# Altium integrated library AUVic_Integrated_Library_Regulators.IntLib: 41 symbols (part 2 of 2)
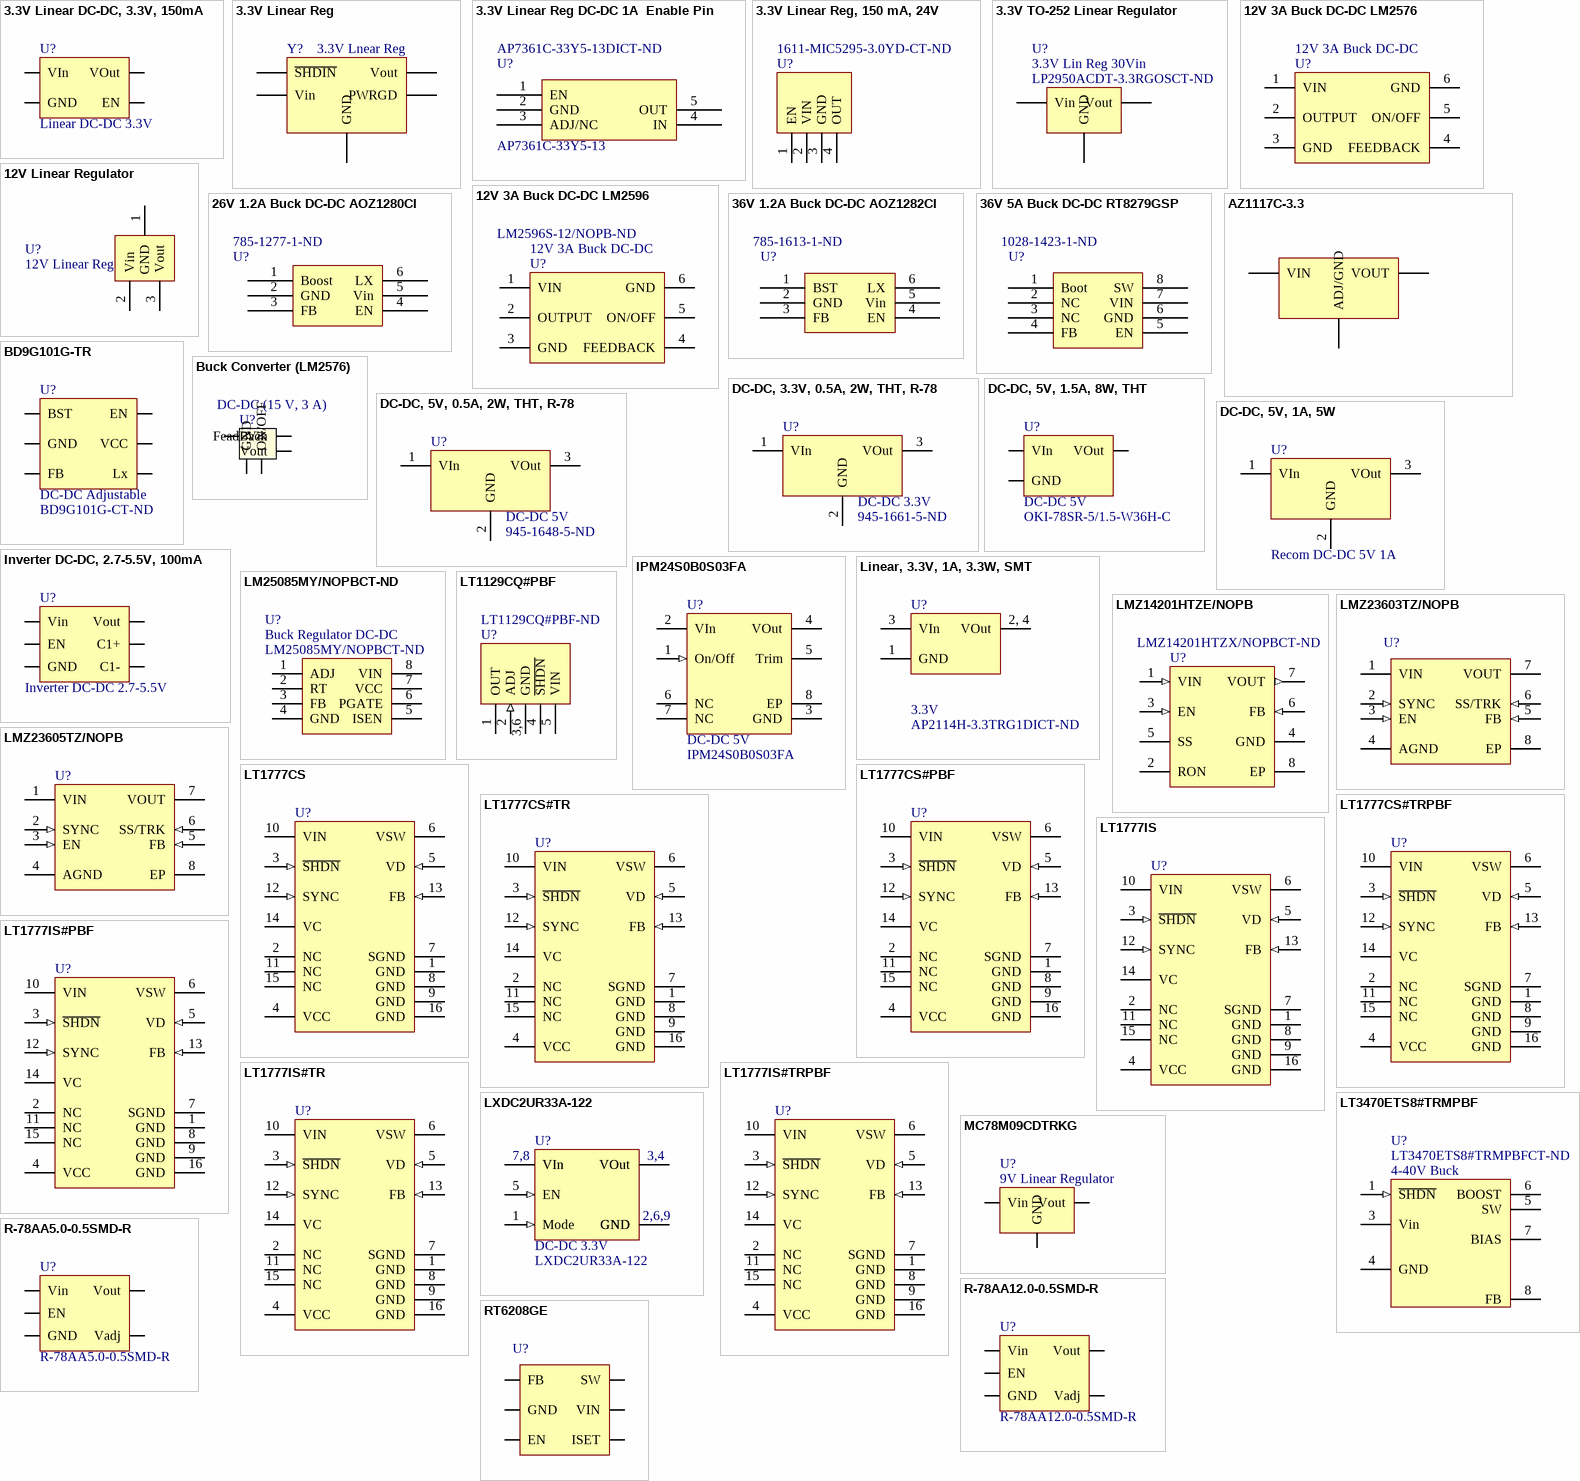
[diagram p2: symbols 3.3V Linear DC-DC, 3.3V, 150mA to RT6208GE]

## LT3470ETS8#TRMPBF
designator U?, comment 4-40V Buck  Supplier Part Number 1: LT3470ETS8#TRMPBFCT-ND
Low Noise Step-Down Switching Regulator, 123-8-pin TSOT, 0 to 85 degC; Manufacturer: Linear Technology; Number of Outputs: 1; RoHS: TRUE; Mounting Technology: Surface Mount; ComponentLink2Description: Datasheet; Supplier 1: Digi-Key
footprint TSOT-23-8
pins: 1 ~{SHDN} (in) "These corner package pins are mechanically connected to the die paddle and thus aid in conducting away internally generated heat. As these are electrically connected to the die substrate, they must be held at ground (See Datasheet)", 3 Vin (power) "When pulled below the shutdown mode threshold, nominally 0.5V, this pin turns off the regulator and reduces VIN input current to a few tens of microamperes (shutdown mode). When this pin is held above the shutdown mode (See Datasheet)", 4 GND (power) "Pin to power the internal control circuitry from the switching supply output. Proper use of this pin enhances overall power supply efficiency. During start-up conditions, internal control circuitry is powered directly from (See Datasheet)", 5 SW "This pin is used in conjunction with a small external sense inductor to limit power path dI/dt. The sense inductor is placed between the VSW output node and the cathode of the freewheeling (power) diode, and the VD pin is (See Datasheet)", 6 BOOST "This is the emitter node of the output switch and has large currents flowing through it. Keep the traces to the switching components as short as possible to minimize electromagnetic radiation and voltage spikes.", 7 BIAS "This is the device signal ground pin. The internal reference and feedback amplifier are referred to it. Keep the ground path connection to the FB divider and the VC compensation capacitor free of large ground currents.", 8 FB "These corner package pins are mechanically connected to the die paddle and thus aid in conducting away internally generated heat. As these are electrically connected to the die substrate, they must be held at ground (See Datasheet)"

## LXDC2UR33A-122
designator U?, comment DC-DC 3.3V  Manufacturer #: LXDC2UR33A-122
DC-DC, 3.3V, 600mA, 2W, SMT; VIn Max: 3.6V; Vin Min: 5.5V; Current: 0.6A; VOut1: 3.3V; Power: 2W; Supplier 1: Digi-Key; Supplier Part Number 1: 490-5964-1-ND
footprint LXDC2UR (LXDC2UR Murata Micro DC-DC)
pins: 1 Mode (in), 2 GND (power), 3 VOut (power), 4 VOut (power), 5 EN (in), 6 GND (power), 7 VIn (power), 8 VIn (power), 9 GND (power)
text: 7,8; 3,4; 2,6,9

## MC78M09CDTRKG
designator U?, comment 9V Linear Regulator
9V Linear Regulator, 500mA; Supplier 1: Digi-Key; Supplier Part Number 1: MC78M09CDTRKGOSCT-ND; Created By: Lyden Smith; Created On: 2017-06-05
footprint DPAK229P991X238-3N (D-PAK, 3-Pads, Body 6.21x6.73mm (max), IPC Medium Density)
pins: 1 Vin, 3 Vout, 4 GND

## R-78AA5.0-0.5SMD-R
designator U?
DC-DC, 5V, 500mA; Supplier 1: Digi-Key; Supplier Part Number 1: 945-1043-1-ND
footprint RECOM_R-78AA (10-Leads)
pins: 1,2 Vin (power), 3,7,8,9 GND (power), 4,5 Vout (power), 6 Vadj (power), 10 EN

## R-78AA12.0-0.5SMD-R
designator U?
DC-DC, 12V, 500mA; Supplier 1: Digi-Key; Supplier Part Number 1: 945-1041-1-ND
footprint RECOM_R-78AA (10-Leads)
pins: 1,2 Vin (power), 3,7,8,9 GND (power), 4,5 Vout (power), 6 Vadj (power), 10 EN

## RT6208GE
designator U?  (value not drawn)
Adjustable Buck, 100mA, SOT-23; Supplier 1: Digi-Key; Supplier Part Number 1: RT6208GECT-ND; Created By: Lyden Smith; Created On: 2017-06-05
footprint SOT23-6_L (SOT23, 6-Leads, Body 2.9x1.6mm, Pitch 0.95mm, Lead Span 2.7mm, IPC High Density)
footprint SOT23-6_M (SOT23, 6-Leads, Body 2.9x1.6mm, Pitch 0.95mm, Lead Span 2.7mm, IPC Low Density)
footprint SOT23-6_N (SOT23, 6-Leads, Body 2.9x1.6mm, Pitch 0.95mm, Lead Span 2.7mm, IPC Medium Density)
pins: 1 FB, 2 GND, 3 EN, 4 ISET, 5 VIN, 6 SW

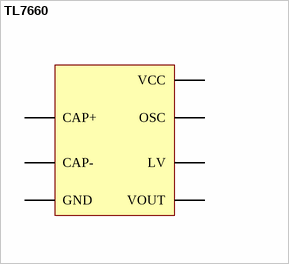
[diagram p1: symbol TL7660]

## TL7660
designator Q?, comment CMOS Voltage Converter
Manufacturer Part No.: TL7660; LatestRevisionDate: 17-Jul-2002; LatestRevisionNote: Re-released for DXP Platform.; Publisher: Altium Limited; Created By: Jordan; Supplier: Digikey; Supplier Part No.: 296-21856-1-ND
footprint 8-SOIC
pins: 2 CAP+ "Pos. Cap. Terminal", 3 GND "Ground", 4 CAP- "Neg. Cap. Terminal", 5 VOUT "Voltage Out", 6 LV "Low Voltage Select", 7 OSC "Oscillator Control", 8 VCC